# Altium integrated library Resistores.IntLib: 64 symbols (part 1 of 2)
Pins are listed as number, name and electrical type; pins without a type are passive.

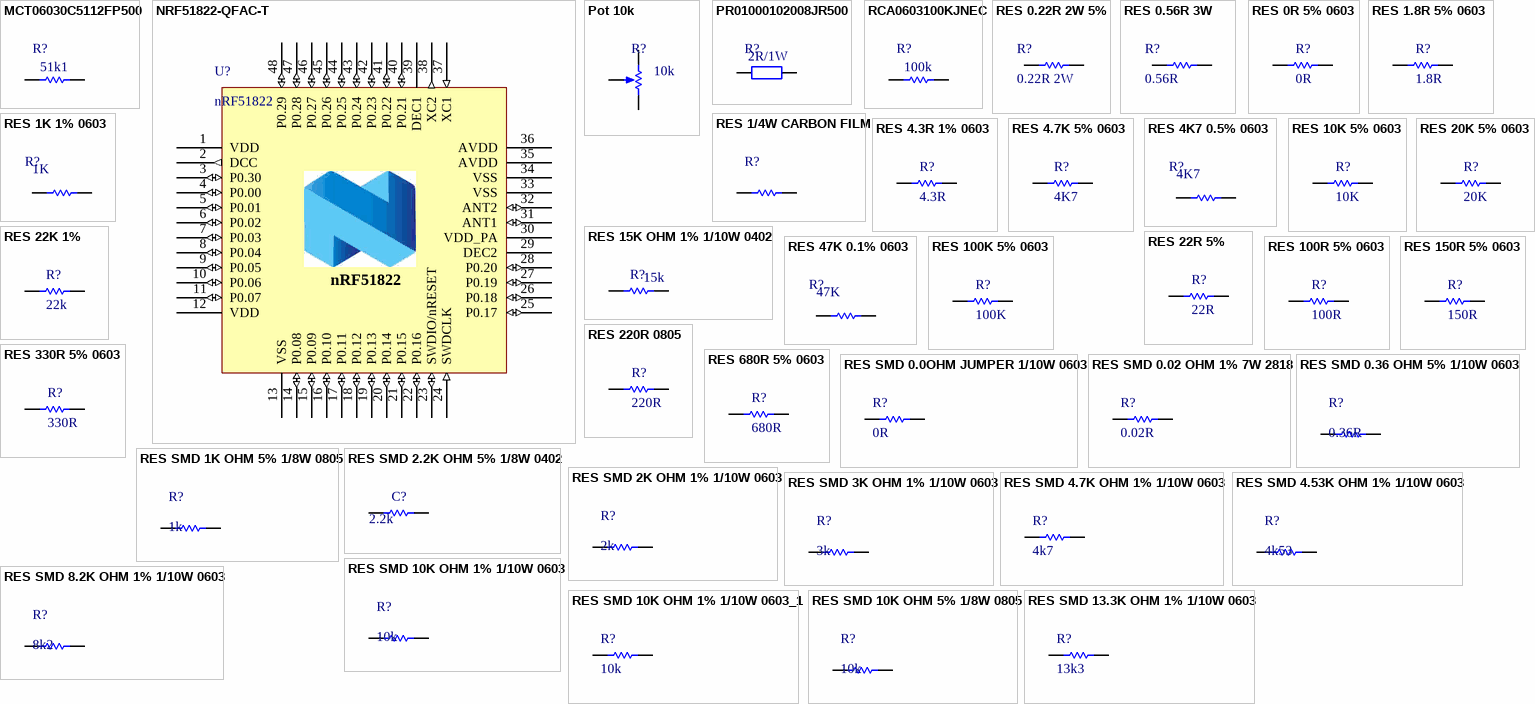
[diagram p0: symbols MCT06030C5112FP500 to RES SMD 13.3K OHM 1% 1/10W 0603]

## MCT06030C5112FP500
designator R?  value 51k1  (hidden comment: MCT06030C5112FP500)
Thin Film Resistors - SMD .1W 51.1Kohm 1% 0603 50ppm Auto; Manufacturer: Vishay / Beyschlag; Power Rating: 100 mW; Resistance: 51.1 kOhms; Temperature Coefficient: 50 PPM / K; Voltage Rating: 75 V; Case Height: 0.45 mm; Case Length: 1.6 mm; Case Width: 0.8 mm; Product Status: New at Mouser; Supplier 1: Mouser; Manufacturer Part Number: MCT06030C5112FP500; RoHS: RoHS Compliant; Category: Thin Film Resistors - SMD; Stock 1: 9178; Pricing 1: 1=0.149, 50=0.068, 100=0.052, 500=0.034, 5000=0.030 (AUD); Operating Temperature Range: - 55 C to + 125 C; Package / Case: 0603 (1608 metric); Packaging: Reel; Product: Professional Resistors Thin Film SMD; Series: MCT0603 Professional; Tolerance: 1 %; Type: Professional Thin Film Chip Resistors; Brand: Vishay / Beyschlag; Case Code - in: 0603; Case Code - mm: 1608; RoHS - Mouser: Y; Minimum Order Quantity: 1; Reeling: True; ComponentLink1URL: http://www.mouser.com/ds/2/427/mc_pro-223600.pdf; ComponentLink1Description: http://www.mouser.com/ds/2/427/mc_pro-223600.pdf; Supplier Part Number 1: 594-MCT06030C5112FP5
footprint RESISTOR-0603 (Chip Capacitor; Body 1.6 x 0.8 mm (LxW typ))
pins: 1, 2

## NRF51822-QFAC-T
designator U?, comment nRF51822
IC RF TXRX+MCU BLUETOOTH 48VFQFN; Manufacturer: Nordic Semiconductor ASA; Manufacturer Part Number: NRF51822-QFAC-T; RF Family/Standard: Bluetooth, General ISM > 1GHz; Protocol: Bluetooth v4.0; Modulation: GFSK; Frequency: 2.4GHz; Data Rate (Max): 2Mbps; Power - Output: 4dBm; Sensitivity: -96dBm; Memory Size: 256kB Flash, 32kB RAM; Serial Interfaces: I²C, SPI, UART; GPIO: 32; Voltage - Supply: 1.8 V ~ 3.6 V; Current - Receiving: 9.7mA ~ 13.4mA; Current - Transmitting: 4.7mA ~ 16mA; Supplier 1: Digi-Key; RoHS: RoHS Compliant; Category: RF/IF and RFID; Stock 1: 1067; Pricing 1: 1=4.96, 10=4.425, 25=3.9824, 100=3.6285, 250=3.27452, 500=2.9382, 1000=2.478, 5000=2.25675, 10000=2.1948 (USD); Packaging: Tray; Type: TxRx + MCU; Operating Temperature: -25°C ~ 75°C; Package / Case: 48-VFQFN Exposed Pad; ComponentLink1URL: http://www.nordicsemi.com/eng/nordic/download_resource/20351/11/97998644; ComponentLink1Description: http://www.nordicsemi.com/eng/nordic/download_resource/20351/11/97998644; Supplier Part Number 1: 1490-1050-ND
footprint QFN48_6X6 (QFN, 48-Leads, Body 6x6mm, Pitch 0.4mm, Thermal Pad 4.1x4.1mm, IPC Medium Density)
pins: 1 VDD (power) "Power supply", 2 DCC (out) "DC/DC output to LC filter", 3 P0.30 (io) "GPIO", 4 P0.00 (io) "GPIO/AREF0", 5 P0.01 (io) "GPIO/AIN2", 6 P0.02 (io) "GPIO/AIN3", 7 P0.03 (io) "GPIO/AIN4", 8 P0.04 (io) "GPIO/AIN5", 9 P0.05 (io) "GPIO/AIN6", 10 P0.06 (io) "GPIO/AIN7/AREF1", 11 P0.07 (io) "GPIO", 12 VDD (power) "Power supply", 13 VSS (power) "Ground (0V)", 14 P0.08 (io) "GPIO", 15 P0.09 (io) "GPIO", 16 P0.10 (io) "GPIO", 17 P0.11 (io) "GPIO", 18 P0.12 (io) "GPIO", 19 P0.13 (io) "GPIO", 20 P0.14 (io) "GPIO", 21 P0.15 (io) "GPIO", 22 P0.16 (io) "GPIO", 23 SWDIO/nRESET (io) "Active low RESET/Programming and debugging I/O", 24 SWDCLK (in) "Programming and debugging I/O", 25 P0.17 (io) "GPIO", 26 P0.18 (io) "GPIO", 27 P0.19 (io) "GPIO", 28 P0.20 (io) "GPIO", 29 DEC2 (power) "Power supply decoupling", 30 VDD_PA (power) "Power supply for RF amp.", 31 ANT1 (io) "Differential antenna connection", 32 ANT2 (io) "Differential antenna connection", 33 VSS (power) "Ground (0V)", 34 VSS (power) "Ground (0V)", 35 AVDD (power) "Analog power supply (radio)", 36 AVDD (power) "Analog power supply (radio)", 37 XC1 (in) "Connection for 16MHz reference", 38 XC2 (out) "Connection for 16MHz reference", 39 DEC1 (power) "Power supply decoupling", 40 P0.21 (io) "GPIO", 41 P0.22 (io) "GPIO", 42 P0.23 (io) "GPIO", 43 P0.24 (io) "GPIO", 44 P0.25 (io) "GPIO", 45 P0.26 (io) "GPIO/AIN0/XL2", 46 P0.27 (io) "GPIO/AIN1/XL1", 47 P0.28 (io) "GPIO", 48 P0.29 (io) "GPIO", 49 TPAD (power) hidden to GND "Power pad - connect to GND"

## Pot 10k
designator R?  Resistance (Ohms): 10k  (hidden comment: Pot 10k)
POT 10K OHM 1/20W PLASTIC LINEAR; Manufacturer: TT Electronics/BI; Manufacturer Part Number: P120PK-Y25BR10K; Tolerance: ±20%; Built in Switch: None; Power (Watts): 0.05W, 1/20W; Number of Turns: 1; Rotation: 300°; Adjustment Type: Top Adjustment; Resistive Material: Conductive Plastic; Actuator Type: Knurled; Actuator Length: 0.984" (25.00mm); Actuator Diameter: 0.236" (6.00mm); Supplier 1: Digi-Key; RoHS: RoHS Compliant; Category: Potentiometers, Variable Resistors; Stock 1: 1210; Pricing 1: 1=0.6, 10=0.553, 25=0.4932, 50=0.476, 100=0.442, 250=0.43352, 500=0.3995, 1000=0.34, 5000=0.2805 (USD); Packaging: Tray; Part Status: Active; Taper: Linear; Temperature Coefficient: -; Termination Style: PC Pins, Board Locks; Bushing Thread: -; Mounting Type: Through Hole, Snap In; ComponentLink1URL: http://www.ttelectronics.com/sites/default/files/download-files/Datasheet_RotaryPanelPot_P120series.pdf; ComponentLink1Description: http://www.ttelectronics.com/sites/default/files/download-files/Datasheet_RotaryPanelPot_P120series.pdf; Supplier Part Number 1: 987-1710-ND
footprint Pot 10k
pins: 1 TOP, 2 TAP, 3 BOT

## PR01000102008JR500
designator R?  value 2R/1W  (hidden comment: PR01000102008JR500)
Metal Film Resistors - Through Hole 1watt 2ohms 5%; Manufacturer: Vishay / BC Components; Power Rating: 1 W; Temperature Coefficient: 250 PPM / K; Voltage Rating: 350 V; Case Diameter: 2.5 mm; Case Length: 6.5 mm; Lead Diameter: 0.58 mm; Supplier 1: Mouser; Manufacturer Part Number: PR01000102008JR500; RoHS: RoHS Compliant; Category: Metal Film Resistors - Through Hole; Stock 1: 9820; Pricing 1: 1=0.208, 100=0.134, 500=0.094, 1000=0.061, 5000=0.039, 10000=0.036, 25000=0.034 (AUD); Operating Temperature Range: - 55 C to + 155 C; Packaging: Reel; Product: Metal Film Resistors - Through Hole; Resistance: 2 Ohms; Series: 5073; Termination Style: Axial; Tolerance: 5 %; Type: Power Metal Film Leaded Resistors; Brand: Vishay / BC Components; Case Height: -; Lead Spacing: -; Product Category: Metal Film Resistors; Standard Pack Qty: 5000; RoHS - Mouser: Y; Minimum Order Quantity: 1; Reeling: True; ComponentLink1URL: http://www.mouser.com/ds/2/427/pr010203-239785.pdf; ComponentLink1Description: http://www.mouser.com/ds/2/427/pr010203-239785.pdf; Supplier Part Number 1: 594-5073NW2R000J
footprint RES Pot Axial 20x5mm
pins: 1, 2

## RCA0603100KJNEC
designator R?  value 100k  (hidden comment: RCA0603100KJNEC)
Thick Film Resistors - SMD 100Kohms 5%; Manufacturer: Vishay; Power Rating: 100 mW; Temperature Coefficient: 200 PPM / K; Voltage Rating: 75 V; Case Height: 0.45 mm; Case Length: 1.55 mm; Case Width: 0.85 mm; Supplier 1: Mouser; Manufacturer Part Number: RCA0603100KJNEC; RoHS: RoHS Compliant By Exemption; Category: Thick Film Resistors - SMD; Stock 1: 0; Pricing 1: 1=0.134, 20000=0.077, 40000=0.019, 100000=0.016, 600000=0.009, 1000000=0.007 (AUD); Operating Temperature Range: - 55 C to + 125 C; Package / Case: 0603 (1608 metric); Packaging: Reel; Product: Thick Film Resistors SMD; Resistance: 100 kOhms; Series: RCA; Tolerance: 5 %; Type: Automotive Grade, Thick Film, Rectangular Chip Resistors; Brand: Vishay; Case Code - in: 0603; Case Code - mm: 1608; Product Category: 0603 Thick Film Chip Resistors; RoHS - Mouser: E; Minimum Order Quantity: 1; Reeling: True; ComponentLink1URL: http://www.mouser.com/ds/2/427/RCA-239686.pdf; ComponentLink1Description: http://www.mouser.com/ds/2/427/RCA-239686.pdf; Supplier Part Number 1: 71-RCA0603100KJNEC
footprint RESISTOR-0603 (Chip Capacitor; Body 1.6 x 0.8 mm (LxW typ))
pins: 1, 2

## RES 0.22R 2W 5%
designator R?, comment 0.22R 2W
WELWYN - WP2S-R22JA25 - RESISTOR, R22 2 WATT 5%; Resistance: 0.22; Voltage Rating: 50; Resistor Case Style: Axial Leaded; Power Rating: 2; Product Range: WP-S Series; Resistor Element Material: Wirewound; Temperature Coefficient: ± 350; SVHC: No SVHC (15-Jun-2015); Body Diameter: 3.6; Body Length: 9; Lead Diameter: 0.8; Lead Length: 19.8; Resistor Mounting: Through Hole; Temperature Coeff. +: 350; Tolerance -: 5%<!--FANDB--><div class="features-and-benefits-container"><div class="features-and-benefits-description"><span class="features-benefits-value">The WP2S-R22JA25 is a compact flameproof Power Wire Wound Resistor with hot tin dipped copper wire and enhanced pulse handling capability. Power rating of 2W and temperature coefficient of ±350; Supplier 1: Farnell; Manufacturer: WELWYN; Manufacturer Part Number: WP2S-R22JA25; RoHS: YES; Stock 1: 5570; Pricing 1: 5=0.289, 50=0.179, 250=0.163, 500=0.143, 1000=0.117, 2500=0.0994, 12500=0.0878, 25000=0.086 (GBP); Resistance Tolerance: ± 5%; Automotive Qualification Standard: -; Element Limiting Voltage: 50; No. of Pins: 2; Operating Temperature Max: 155; Operating Temperature Min: -55; Operating Temperature Range: -55°C to +155; Temperature Coeff. -: 350; Tolerance +: 5%; ComponentLink1URL: http://www.farnell.com/datasheets/2158887.pdf; ComponentLink1Description: http://www.farnell.com/datasheets/2158887.pdf; Supplier Part Number 1: 1219190
footprint RES 0R22 3W CARBON FILM
footprint RES 0R22 3W CARBON FILM_STAND
pins: 1, 2

## RES 0.56R 3W
designator R?, comment 0.56R
RES CER 0.56R 3W 5% PTH; Manufacturer: MULTICOMP; Manufacturer Part Number: MCKNP03SJ056KA19; Supplier 1: Farnell; RoHS: YES; Stock 1: 1412; Pricing 1: 1=0.298, 50=0.131, 100=0.109, 250=0.0821, 500=0.0656, 1000=0.0547, 5000=0.0345, 10000=0.029 (GBP); ComponentLink1URL: http://www.farnell.com/datasheets/1447692.pdf; ComponentLink1Description: http://www.farnell.com/datasheets/1447692.pdf; Supplier Part Number 1: 1903861
footprint RES 0R56 3W CARBON FILM
pins: 1, 2

## RES 0R 5% 0603
designator R?, comment 0R
Manufacturer: PANASONIC ELECTRONIC COMPONENTS; Manufacturer Part Number: ERJ-3GEY0R00V; Product Range: AEC-Q200 ERJ3; Resistance: 0; Power Rating: 100; Voltage Rating: 75; Resistor Case Style: 0603 [1608 Metric]; Resistance (Ohms): 0.0; Tolerance: Jumper; Power (Watts): 0.1W, 1/10W; Brand: Panasonic; Qualification: AEC-Q200; RoHS: YES; Resistance Tolerance: -; Packaging: Cut Tape; MSL: -; ComponentLink1URL: http://www.farnell.com/cad/1697908.zip; ComponentLink1Description: http://www.farnell.com/cad/1697908.zip; ComponentLink2URL: http://www.farnell.com/datasheets/1678796.pdf; ComponentLink2Description: http://www.farnell.com/datasheets/1678796.pdf; Category: Resistors; Composition: Thick Film; Features: Automotive AEC-Q200; Temperature Coefficient: -; Operating Temperature: -55°C ~ 155°C; Package / Case: 0603 (1608 Metric); Supplier Device Package: 0603; Size / Dimension: 0.063" L x 0.031" W (1.60mm x 0.80mm); Height: 0.022" (0.55mm); Number of Terminations: 2; ComponentLink3URL: http://industrial.panasonic.com/www-cgi/jvcr13pz.cgi?E+PZ+3+AOA0001+ERJ3GEY0R00V+7+WW; ComponentLink3Description: http://industrial.panasonic.com/www-cgi/jvcr13pz.cgi?E+PZ+3+AOA0001+ERJ3GEY0R00V+7+WW; Supplier 1: Mouser; Stock 1: 1987085; Pricing 1: 1=0.160, 10=0.019, 100=0.013, 500=0.010, 1000=0.005, 5000=0.003 (AUD); Length: 1.6 mm; Operating Temperature Range: - 55 C to + 155 C; Product: Thick Film Resistors Zero-Ohm; Series: ERJ; Termination Style: SMD/SMT; Type: Thick Film Resistors SMD; Width: 0.8 mm; Case Code - in: 0603; Case Code - mm: 1608; RoHS - Mouser: E; Minimum Order Quantity: 1; Reeling: True; ComponentLink4URL: http://www.mouser.com/ds/2/315/AOA0000C84-947596.pdf; ComponentLink4Description: http://www.mouser.com/ds/2/315/AOA0000C84-947596.pdf; Supplier Part Number 1: 667-ERJ-3GEY0R00V
footprint RESISTOR 0603 (RES 5% 0603)
pins: 1, 2

## RES 1.8R 5% 0603
designator R?, comment 1.8R
Thick Film Resistors - SMD 1.8 OHM 5%; Manufacturer: Yageo; Manufacturer Part Number: RC0603JR-071R8L; Power Rating: 100 mW; Resistance: 1.8 Ohms; Temperature Coefficient: 200 PPM / C; Voltage Rating: 75 V; Supplier 1: Mouser; RoHS: RoHS Compliant; Category: Thick Film Resistors - SMD; Stock 1: 37637; Pricing 1: 1=0.100, 10=0.008, 100=0.003, 1000=0.002, 5000=0.002, 50000=0.001 (USD); Height: 0.45 mm; Length: 1.6 mm; Operating Temperature Range: - 55 C to + 155 C; Package / Case: 0603 (1608 metric); Packaging: Reel; Product: Thick Film Resistors General Purpose; Series: RC; Termination Style: SMD/SMT; Tolerance: 5 %; Type: General Purpose Chip Resistor Surface Mount; Width: 0.8 mm; Brand: Yageo; Case Code - in: 0603; Case Code - mm: 1608; Standard Pack Qty: 5000; RoHS - Mouser: Y; Minimum Order Quantity: 1; Reeling: True; ComponentLink1URL: http://www.mouser.com/ds/2/447/RC0603-272842.pdf; ComponentLink1Description: http://www.mouser.com/ds/2/447/RC0603-272842.pdf; Supplier Part Number 1: 603-RC0603JR-071R8L
footprint RESISTOR 0603 (RES 5% 0603)
pins: 1, 2

## RES 1/4W CARBON FILM
designator R?  (value not drawn)
RES ? OHM 1/4W 5% CARBON FILM; Manufacturer: Ty-Ohm; Manufacturer Part Number: CR25; Power (Watts): 0.25W, 1/4W; Temperature Coefficient: 0/ -500ppm/°C; Supplier 1: Mult Comercial; RoHS: RoHS Compliant; Category: Resistors; Stock 1: 617543; Pricing 1: 1=0.20 (BRL); Packaging: Cut Tape (CT); Tolerance: ±5%; Composition: Carbon Film; Features: Flame Retardant Coating, Safety; Operating Temperature: -55°C ~ 155°C; Package / Case: Axial; Supplier Device Package: Axial; Size / Dimension: 0.091" Dia x 0.256" L (2.30mm x 6.50mm); Height: -; Number of Terminations: 2; ComponentLink1URL: http://loja.multcomercial.com.br/resistor-de-1-4-de-watt-cr25-5-de-tolerancia.html; ComponentLink1Description: http://loja.multcomercial.com.br/resistor-de-1-4-de-watt-cr25-5-de-tolerancia.html; Supplier Part Number 1: Resistor de Filme de Carbono 1/4 de Watt CR25 5% de tolerância - 0.22R Ω à 10M Ω; Resistance (Ohms): ?
footprint RES 10K 1/4W CARBON FILM
footprint RES 470R 1/4W CARBON FILM
footprint RES 470R 1/4W CARBON FILM_STAND
footprint RES 10K 1/4W CARBON FILM_STAND
footprint RES 1K 1/4W CARBON FILM
footprint RES 1K 1/4W CARBON FILM_STAND
footprint RES 2K2 1/4W CARBON FILM
footprint RES 2K2 1/4W CARBON FILM_STAND
footprint RES 3K9 1/4W CARBON FILM
footprint RES 3K9 1/4W CARBON FILM_STAND
footprint RES 5K6 1/4W CARBON FILM
footprint RES 5K6 1/4W CARBON FILM_STAND
footprint RES 8K2 1/4W CARBON FILM
footprint RES 8K2 1/4W CARBON FILM_STAND
footprint RES 100R 1/4W CARBON FILM
pins: 1, 2

## RES 1K 1% 0603
designator R?  Supplier Part Number 1: 1K  (hidden comment: *)
Thin Film Resistors - SMD 1Kohms 1% 50ppm; Manufacturer: Vishay; Manufacturer Part Number: TNPW06031K00FHEA; Power Rating: 100 mW; Temperature Coefficient: 50 PPM / C; Voltage Rating: 75 V; Supplier 1: Mouser; RoHS: RoHS Compliant; Category: Thin Film Resistors - SMD; Stock 1: 2821; Pricing 1: 1=0.160, 25=0.140, 100=0.130, 500=0.125, 1000=0.120, 2000=0.090, 5000=0.080, 10000=0.075, 25000=0.070 (USD); Diameter: -; Height: 0.45 mm; Length: 1.6 mm; Operating Temperature Range: - 55 C to + 125 C; Package / Case: 0603 (1608 metric); Packaging: Reel; Product: Precision Resistors Thin Film SMD; Resistance: 1 kOhms; Series: TNPW e3; Termination Style: SMD/SMT; Tolerance: 1 %; Type: High Stability Thin Film Flat Chip Resistor; Width: 0.8 mm; Brand: Vishay; Case Code - in: 0603; Case Code - mm: 1608; Standard Pack Qty: 5000; RoHS - Mouser: Y; Minimum Order Quantity: 1; Reeling: True; ComponentLink1URL: http://www.mouser.com/ds/2/427/tnpw_e3-64594.pdf; ComponentLink1Description: http://www.mouser.com/ds/2/427/tnpw_e3-64594.pdf
footprint RESISTOR 0603 (RES 5% 0603)
footprint SMD-0402-RES
pins: 1, 2

## RES 4.3R 1% 0603
designator R?, comment 4.3R
Current Sense Resistors - SMD Thick Film Chip Res, 0603, Low ohmic,1%; Manufacturer: Panasonic; Manufacturer Part Number: ERJ-3BQF4R3V; Resistance: 4.3 Ohms; Qualification: AEC-Q200; Supplier 1: Mouser; Category: Current Sense Resistors - SMD; Stock 1: 10000; Pricing 1: 1=0.590, 10=0.229, 100=0.143, 500=0.108, 1000=0.083, 5000=0.062, 10000=0.044, 25000=0.043, 50000=0.041 (USD); Height: 0.45 mm; Length: 1.6 mm; Package / Case: 0603 (1608 metric); Packaging: Reel; Series: ERJ; Technology: Thick Film; Termination Style: SMD/SMT; Width: 0.8 mm; Brand: Panasonic; Standard Pack Qty: 5000; Termination: -; Minimum Order Quantity: 1; Reeling: True; ComponentLink1URL: http://www.mouser.com/ds/2/315/AOA0000C239-947529.pdf; ComponentLink1Description: http://www.mouser.com/ds/2/315/AOA0000C239-947529.pdf
footprint RESISTOR 0603 (RES 5% 0603)
pins: 1, 2

## RES 4.7K 5% 0603
designator R?, comment 4K7
RES SMD 4.7K OHM 5% 1/10W 0603; Manufacturer: Panasonic Electronic Components; Manufacturer Part Number: ERJ-3GEYJ472V; Power (Watts): 0.1W, 1/10W; Temperature Coefficient: ±200ppm/°C; Supplier 1: Digi-Key; RoHS: RoHS Compliant; Category: Resistors; Stock 1: 1290000; Pricing 1: 5000=0.00209, 10000=0.00182, 25000=0.0016, 50000=0.0015 (USD); Packaging: Tape & Reel (TR); Part Status: Active; Resistance (Ohms): 4.7k; Tolerance: ±5%; Composition: Thick Film; Features: Automotive AEC-Q200; Operating Temperature: -55°C ~ 155°C; Package / Case: 0603 (1608 Metric); Supplier Device Package: 0603; Size / Dimension: 0.063" L x 0.031" W (1.60mm x 0.80mm); Height - Seated (Max): 0.022" (0.55mm); Number of Terminations: 2; Failure Rate: -; ComponentLink1URL: http://industrial.panasonic.com/www-cgi/jvcr13pz.cgi?E+PZ+3+AOA0001+ERJ3GEYJ472V+7+WW; ComponentLink1Description: http://industrial.panasonic.com/www-cgi/jvcr13pz.cgi?E+PZ+3+AOA0001+ERJ3GEYJ472V+7+WW
footprint RESISTOR 0603 (RES 5% 0603)
footprint SMD-0402-RES
pins: 1, 2

## RES 4K7 0.5% 0603
designator R?  Supplier Part Number 1: 4K7  (hidden comment: *)
Thin Film Resistors - SMD .15W 4.7Kohms .5% 0603 SMD 25ppm; Manufacturer: Vishay / Beyschlag; Manufacturer Part Number: MCT0603MD4701DP500; Power Rating: 125 mW (1/8 W); Temperature Coefficient: 25 PPM / K; Tolerance: 0.5 %; Voltage Rating: 75 V; Supplier 1: Mouser; RoHS: RoHS Compliant; Category: Thin Film Resistors - SMD; Stock 1: 8588; Pricing 1: 1=0.170, 50=0.134, 100=0.106, 500=0.086, 1000=0.062, 5000=0.052, 10000=0.047, 15000=0.044 (USD); Height: 0.45 mm; Length: 1.6 mm; Operating Temperature Range: - 55 C to + 155 C; Package / Case: 0603 (1608 metric); Packaging: Reel; Product: Precision Automotive Thin Film SMD; Resistance: 4.7 kOhms; Series: MCT0603 AT; Termination Style: SMD/SMT; Type: Professional Thin Film Chip Resistors; Width: 0.8 mm; Brand: Vishay / Beyschlag; Case Code - in: 0603; Case Code - mm: 1608; Standard Pack Qty: 5000; RoHS - Mouser: Y; Minimum Order Quantity: 1; Reeling: True; ComponentLink1URL: http://www.mouser.com/ds/2/427/mcat_pro-223602.pdf; ComponentLink1Description: http://www.mouser.com/ds/2/427/mcat_pro-223602.pdf
footprint RESISTOR 0603 (RES 5% 0603)
pins: 1, 2

## RES 10K 5% 0603
designator R?, comment 10K
Manufacturer: PANASONIC ELECTRONIC COMPONENTS; Manufacturer Part Number: ERJ-3GEYJ103V; Tolerance: ±5%; Power (Watts): 0.1W, 1/10W; Temperature Coefficient: ±200ppm/°C; RoHS: YES; ComponentLink1URL: http://www.farnell.com/datasheets/1678796.pdf; ComponentLink1Description: http://www.farnell.com/datasheets/1678796.pdf; Category: Resistors; Packaging: Tape & Reel (TR); Resistance (Ohms): 10k; Composition: Thick Film; Features: Automotive AEC-Q200; Operating Temperature: -55°C ~ 155°C; Package / Case: 0603 (1608 Metric); Supplier Device Package: 0603; Size / Dimension: 0.063" L x 0.031" W (1.60mm x 0.80mm); Height: 0.022" (0.55mm); Number of Terminations: 2; ComponentLink2URL: http://industrial.panasonic.com/www-cgi/jvcr13pz.cgi?E+PZ+3+AOA0001+ERJ3GEYJ103V+7+WW; ComponentLink2Description: http://industrial.panasonic.com/www-cgi/jvcr13pz.cgi?E+PZ+3+AOA0001+ERJ3GEYJ103V+7+WW; Supplier 1: Mouser; Supplier Part Number 1: 667-ERJ-3GEYJ103V
footprint RESISTOR 0603 (RES 5% 0603)
footprint SMD-0402-RES
pins: 1, 2

## RES 15K OHM 1% 1/10W 0402
designator R?, comment 15k
RES SMD 15K OHM 1% 1/10W 0402; Manufacturer: Panasonic Electronic Components; Manufacturer Part Number: ERJ-2RKF1502X; Power (Watts): 0.1W, 1/10W; Temperature Coefficient: ±100ppm/°C; Supplier 1: Digi-Key; RoHS: RoHS Compliant; Category: Resistors; Stock 1: 278582; Pricing 1: 1=0.1, 10=0.026, 100=0.0105, 1000=0.00473, 2500=0.0041, 5000=0.00339 (USD); Packaging: Digi-Reel®; Part Status: Active; Tolerance: ±1%; Composition: Thick Film; Features: Automotive AEC-Q200; Operating Temperature: -55°C ~ 155°C; Package / Case: 0402 (1005 Metric); Supplier Device Package: 0402; Size / Dimension: 0.039" L x 0.020" W (1.00mm x 0.50mm); Height - Seated (Max): 0.016" (0.40mm); Failure Rate: -; ComponentLink1URL: https://industrial.panasonic.com/cdbs/www-data/pdf/RDA0000/AOA0000C283.pdf; ComponentLink1Description: https://industrial.panasonic.com/cdbs/www-data/pdf/RDA0000/AOA0000C283.pdf; Supplier Part Number 1: P15.0KLDKR-ND; Resistance (Ohms): 15k
footprint RESISTOR 0603 (RES 5% 0603)
pins: 1, 2

## RES 20K 5% 0603
designator R?, comment 20K
Manufacturer: Susumu; Manufacturer Part Number: RR0816P-203-D; Tolerance: ±0.5%; Power (Watts): 0.063W, 1/16W; Temperature Coefficient: ±25ppm/°C; Supplier 1: Digi-Key; RoHS: RoHS Compliant; Category: Resistors; Stock 1: 197464; Pricing 1: 1=0.1, 10=0.093, 25=0.0644, 50=0.0502, 100=0.0358, 250=0.02792, 500=0.0222, 1000=0.01575 (USD); Packaging: Cut Tape (CT); Part Status: Active; Resistance (Ohms): 20k; Composition: Thin Film; Features: -; Operating Temperature: -55°C ~ 125°C; Package / Case: 0603 (1608 Metric); Supplier Device Package: -; Size / Dimension: 0.063" L x 0.031" W (1.60mm x 0.80mm); Height: 0.020" (0.50mm); Number of Terminations: 2; Failure Rate: -; ComponentLink1URL: http://www.susumu-usa.com/pdf/RR_Data_Sheet.pdf; ComponentLink1Description: http://www.susumu-usa.com/pdf/RR_Data_Sheet.pdf; Supplier Part Number 1: RES 20K 5% 0603
footprint RESISTOR 0603 (RES 5% 0603)
pins: 1, 2

## RES 22K 1%
designator R?, comment 22k
RES SMD 22K OHM 1% 1/20W 0201; Manufacturer: Yageo; Manufacturer Part Number: RC0201FR-0722KL; Power (Watts): 0.05W, 1/20W; Temperature Coefficient: ±200ppm/°C; Supplier 1: Digi-Key; RoHS: RoHS Compliant; Category: Resistors; Stock 1: 36515; Pricing 1: 1=0.1, 10=0.041, 25=0.0296, 50=0.0224, 100=0.0166, 250=0.01264, 500=0.01012, 1000=0.00745, 5000=0.00534 (USD); Packaging: Cut Tape (CT); Part Status: Active; Resistance (Ohms): 22k; Tolerance: ±1%; Composition: Thick Film; Features: Moisture Resistant; Operating Temperature: -55°C ~ 125°C; Package / Case: 0201 (0603 Metric); Supplier Device Package: 0201; Size / Dimension: 0.024" L x 0.012" W (0.60mm x 0.30mm); Height - Seated (Max): 0.010" (0.26mm); Number of Terminations: 2; Failure Rate: -; ComponentLink1URL: http://www.yageo.com/NewPortal/yageodocoutput?fileName=/pdf/R-Chip/PYu-RC_Group_51_RoHS_L_4.pdf; ComponentLink1Description: http://www.yageo.com/NewPortal/yageodocoutput?fileName=/pdf/R-Chip/PYu-RC_Group_51_RoHS_L_4.pdf; Supplier Part Number 1: YAG2278CT-ND
footprint RESISTOR 0603 (RES 5% 0603)
pins: 1, 2

## RES 22R 5%
designator R?, comment 22R
RES SMD 22 OHM 5% 1/20W 0201; Manufacturer: Panasonic Electronic Components; Manufacturer Part Number: ERJ-1GEJ220C; Resistance (Ohms): 22; Power (Watts): 0.05W, 1/20W; Temperature Coefficient: ±200ppm/°C; Supplier 1: Digi-Key; RoHS: RoHS Compliant; Category: Resistors; Stock 1: 409383; Pricing 1: 1=0.1, 10=0.039, 25=0.0284, 50=0.0216, 100=0.0159, 250=0.01216, 500=0.00972, 1000=0.00716, 5000=0.00513 (USD); Packaging: Cut Tape (CT); Part Status: Active; Tolerance: ±5%; Composition: Thick Film; Features: -; Operating Temperature: -55°C ~ 125°C; Package / Case: 0201 (0603 Metric); Supplier Device Package: 0201; Size / Dimension: 0.024" L x 0.012" W (0.60mm x 0.30mm); Height - Seated (Max): 0.010" (0.26mm); Number of Terminations: 2; Failure Rate: -; ComponentLink1URL: http://media.digikey.com/pdf/Data%20Sheets/Panasonic%20Resistors%20Thermistors%20PDFs/ERJ%205%25.pdf; ComponentLink1Description: http://media.digikey.com/pdf/Data%20Sheets/Panasonic%20Resistors%20Thermistors%20PDFs/ERJ%205%25.pdf; Supplier Part Number 1: P22AGCT-ND
footprint RESISTOR 0603 (RES 5% 0603)
pins: 1, 2

## RES 47K 0.1% 0603
designator R?  Supplier Part Number 1: 47K  (hidden comment: *)
Thin Film Resistors - SMD 0603 1/10W 47Kohms; Manufacturer: Panasonic; Manufacturer Part Number: ERA-3AEB473V; Power Rating: 100 mW; Temperature Coefficient: 25 PPM / C; Tolerance: 0.1 %; Supplier 1: Mouser; RoHS: RoHS Compliant By Exemption; Category: Thin Film Resistors - SMD; Stock 1: 28007; Pricing 1: 1=0.630, 10=0.249, 100=0.149, 500=0.105, 1000=0.076, 5000=0.042, 10000=0.039, 25000=0.037 (USD); Height: 0.45 mm; Length: 1.6 mm; Operating Temperature Range: - 55 C to + 155 C; Package / Case: 0603 (1608 metric); Packaging: Reel; Product: Thin Film Resistors SMD; Resistance: 47 kOhms; Series: ERA-3A; Termination Style: SMD/SMT; Type: Metal Film Chip Resistors; Width: 0.8 mm; Brand: Panasonic; Case Code - in: 0603; Case Code - mm: 1608; Standard Pack Qty: 5000; RoHS - Mouser: E; Minimum Order Quantity: 1; Reeling: True; ComponentLink1URL: http://www.mouser.com/ds/2/315/AOA0000C237-944224.pdf; ComponentLink1Description: http://www.mouser.com/ds/2/315/AOA0000C237-944224.pdf
footprint RESISTOR 0603 (RES 5% 0603)
footprint SMD-0402-RES
pins: 1, 2

## RES 100K 5% 0603
designator R?, comment 100K
Manufacturer: PANASONIC ELECTRONIC COMPONENTS; Manufacturer Part Number: ERJ3GEYJ104V; Product Range: AEC-Q200 ERJ3; Resistance: 100; Resistance Tolerance: ± 5%; Voltage Rating: 75; Resistor Case Style: 0603 [1608 Metric]; Resistor Element Material: Thick Film; Temperature Coefficient: ± 200; SVHC: No SVHC (15-Jun-2015); Resistor Mounting: Surface Mount Device<!--FANDB--><div class="features-and-benefits-container"><div class="features-and-benefits-description"><span class="features-benefits-value">The Panasonic ERJ 3G series resistors are automotive grade thick film chip resistors. The resistance range includes E24 decade values from 1ohm to 10Mohm. ERJ series resistors have metal glaze thick film resistive element and three layers of electrodes that make them highly reliable.</span></div><div class="features-and-benefits-list"><ul class="features-and-benefits-list-list"><li class="features-and-benefits-list-item">EIA 01005, 0201, 0402, 0603, 0805, 1206, 1210, 1812, 2010, 2512 case sizes available</li><li class="features-and-benefits-list-item">Small size, low weight resistors</li><li class="features-and-benefits-list-item">Automotive grade AEC-Q200 compliant</li><li class="features-and-benefits-list-item">Maximum power rating of 1W</li><li class="features-and-benefits-list-item">Tolerance of ±5%</li><li class="features-and-benefits-list-item">Temperature coefficient (TCR) of -100 to +600, -400 to +150, ±300 and ±200ppm/°C</li><li class="features-and-benefits-list-item">Available in -55°C to 125°C and -55°C to 155°C operating temperature ranges</li><li class="features-and-benefits-list-item">Meets IEC 60115-8, JIS C 5201-8, EIAJ RC-2134; Tolerance: 5 %; Brand: Panasonic; Qualification: AEC-Q200; RoHS: YES; Power Rating: 100; Packaging: Cut Tape; MSL: -; ComponentLink1URL: http://www.farnell.com/datasheets/1678796.pdf; ComponentLink1Description: http://www.farnell.com/datasheets/1678796.pdf; ComponentLink2URL: http://www.farnell.com/datasheets/1718548.pdf; ComponentLink2Description: http://www.farnell.com/datasheets/1718548.pdf; Supplier 1: Mouser; Category: Thick Film Resistors - SMD; Stock 1: 312094; Pricing 1: 1=0.160, 10=0.019, 100=0.013, 500=0.010, 1000=0.005, 5000=0.003 (AUD); Height: 0.45 mm; Length: 1.6 mm; Operating Temperature Range: - 55 C to + 155 C; Package / Case: 0603 (1608 metric); Product: Thick Film Resistors SMD; Series: ERJ; Termination Style: SMD/SMT; Type: Thick Film Resistors SMD; Width: 0.8 mm; Case Code - in: 0603; Case Code - mm: 1608; RoHS - Mouser: E; Minimum Order Quantity: 1; Reeling: True; ComponentLink3URL: http://www.mouser.com/ds/2/315/AOA0000C84-947596.pdf; ComponentLink3Description: http://www.mouser.com/ds/2/315/AOA0000C84-947596.pdf; Supplier Part Number 1: 667-ERJ-3GEYJ104V
footprint RESISTOR 0603 (RES 5% 0603)
pins: 1, 2

## RES 100R 5% 0603
designator R?, comment 100R
Manufacturer: PANASONIC ELECTRONIC COMPONENTS; Manufacturer Part Number: ERJ-3EKF1000V; Product Range: AEC-Q200 ERJ3; Resistance: 100; Resistance Tolerance: 1%; Voltage Rating: 75; Resistor Case Style: 0603 [1608 Metric]; Tolerance: ±1%; Power (Watts): 0.1W, 1/10W; Temperature Coefficient: ±100ppm/°C; Brand: Panasonic; Qualification: AEC-Q200; RoHS: YES; Power Rating: 100; Packaging: Cut Tape; MSL: -; ComponentLink1URL: http://www.farnell.com/cad/1560092.zip; ComponentLink1Description: http://www.farnell.com/cad/1560092.zip; ComponentLink2URL: http://www.farnell.com/datasheets/1678782.pdf; ComponentLink2Description: http://www.farnell.com/datasheets/1678782.pdf; Category: Resistors; Resistance (Ohms): 100; Composition: Thick Film; Features: Automotive AEC-Q200; Operating Temperature: -55°C ~ 155°C; Package / Case: 0603 (1608 Metric); Supplier Device Package: 0603; Size / Dimension: 0.063" L x 0.031" W (1.60mm x 0.80mm); Height: 0.022" (0.55mm); Number of Terminations: 2; ComponentLink3URL: http://industrial.panasonic.com/www-cgi/jvcr13pz.cgi?E+PZ+3+AOA0002+ERJ3EKF1000V+7+WW; ComponentLink3Description: http://industrial.panasonic.com/www-cgi/jvcr13pz.cgi?E+PZ+3+AOA0002+ERJ3EKF1000V+7+WW; Length: 1.6 mm; Operating Temperature Range: - 55 C to + 155 C; Product: Thick Film Resistors SMD; Series: ERJ; Termination Style: SMD/SMT; Type: Precision Thick Film Resistors SMD; Width: 0.8 mm; Case Code - in: 0603; Case Code - mm: 1608; RoHS - Mouser: E; Minimum Order Quantity: 1; Reeling: True; ComponentLink4URL: http://www.mouser.com/ds/2/315/AOA0000C86-911473.pdf; ComponentLink4Description: http://www.mouser.com/ds/2/315/AOA0000C86-911473.pdf; Supplier 1: Mouser; Stock 1: 6963; Pricing 1: 1=0.288, 10=0.174, 100=0.101, 1000=0.069, 5000=0.053, 10000=0.046, 25000=0.042, 50000=0.035, 100000=0.029 (AUD); Diameter: -; Product Category: 0603 Thick Film Chip Resistors; ComponentLink6URL: http://www.mouser.com/ds/2/427/crcwhpe3-46056.pdf; ComponentLink6Description: http://www.mouser.com/ds/2/427/crcwhpe3-46056.pdf; Supplier Part Number 1: 71-CRCW0603100RJNEAH
footprint RESISTOR 0603 (RES 5% 0603)
pins: 1, 2

## RES 150R 5% 0603
designator R?, comment 150R
Manufacturer: Vishay Beyschlag; Manufacturer Part Number: MCT0603MD1500DP500; Resistance (Ohms): 150; Tolerance: ±0.5%; Power (Watts): 0.15W; Temperature Coefficient: ±25ppm/°C; Supplier 1: Digi-Key; RoHS: RoHS Compliant; Category: Resistors; Stock 1: 6800; Pricing 1: 1=0.41, 10=0.294, 25=0.2172, 50=0.1602, 100=0.1176, 250=0.0972, 500=0.08014, 1000=0.05797 (USD); Packaging: Cut Tape (CT); Part Status: Active; Composition: Thin Film; Features: Anti-Sulfur, Automotive AEC-Q200; Operating Temperature: -55°C ~ 175°C; Package / Case: 0603 (1608 Metric); Supplier Device Package: 0603; Size / Dimension: 0.061" L x 0.033" W (1.55mm x 0.85mm); Height: 0.022" (0.55mm); Number of Terminations: 2; Failure Rate: -; ComponentLink1URL: http://www.vishay.com/docs/28760/mcat_pro.pdf; ComponentLink1Description: http://www.vishay.com/docs/28760/mcat_pro.pdf; Supplier Part Number 1: RES 150R 5% 0603
footprint RESISTOR 0603 (RES 5% 0603)
pins: 1, 2

## RES 220R 0805
designator R?, comment 220R
Manufacturer: Panasonic; Manufacturer Part Number: ERJP06F2200V; Supplier 1: Allied; RoHS: No; Stock 1: 0; Pricing 1: 50=0.0376, 125=0.0339, 250=0.0308, 500=0.0282 (USD); ComponentLink1URL: http://www.alliedelec.com/m/d/0ad461061842af8edcaf7ac114212a8c.pdf; ComponentLink1Description: http://www.alliedelec.com/m/d/0ad461061842af8edcaf7ac114212a8c.pdf; ComponentLink2URL: http://www.alliedelec.com/panasonic-erjp06f2200v/70348978/; ComponentLink2Description: http://www.alliedelec.com/panasonic-erjp06f2200v/70348978/
footprint RESISTOR 0805 (Chip Resistor, 2-Leads, Body 2,00x1,25mm, IPC Low Density)
pins: 1, 2

## RES 330R 5% 0603
designator R?, comment 330R
RES SMD 330 OHM 5% 1/10W 0603; Manufacturer: Panasonic Electronic Components; Manufacturer Part Number: ERJ-3GEYJ331V; Resistance (Ohms): 330; Power (Watts): 0.1W, 1/10W; Temperature Coefficient: ±200ppm/°C; Supplier 1: Digi-Key; RoHS: RoHS Compliant; Category: Resistors; Stock 1: 401985; Pricing 1: 1=0.1, 10=0.016, 25=0.0116, 50=0.0088, 100=0.0065, 250=0.00496, 500=0.00396, 1000=0.00292 (USD); Packaging: Cut Tape (CT); Part Status: Active; Tolerance: ±5%; Composition: Thick Film; Features: Automotive AEC-Q200; Operating Temperature: -55°C ~ 155°C; Package / Case: 0603 (1608 Metric); Supplier Device Package: 0603; Size / Dimension: 0.063" L x 0.031" W (1.60mm x 0.80mm); Height - Seated (Max): 0.022" (0.55mm); Number of Terminations: 2; Failure Rate: -; ComponentLink1URL: http://industrial.panasonic.com/www-cgi/jvcr13pz.cgi?E+PZ+3+AOA0001+ERJ3GEYJ331V+7+WW; ComponentLink1Description: http://industrial.panasonic.com/www-cgi/jvcr13pz.cgi?E+PZ+3+AOA0001+ERJ3GEYJ331V+7+WW
footprint RES 0603 N (Chip Resistor, 2-Leads, Body 1,60x0,80mm, IPC Medium Density)
pins: 1, 2

## RES 680R 5% 0603
designator R?, comment 680R
Manufacturer: PANASONIC ELECTRONIC COMPONENTS; Manufacturer Part Number: ERJ-3GEYJ681V; Product Range: AEC-Q200 ERJ3; Resistance: 680; Power Rating: 100; Resistance Tolerance: 5%; Voltage Rating: 75; Resistor Case Style: 0603 [1608 Metric]; Tolerance: ±5%; Power (Watts): 0.1W, 1/10W; Temperature Coefficient: ±200ppm/°C; Brand: Panasonic; Qualification: AEC-Q200; RoHS: YES; Packaging: Cut Tape; MSL: -; ComponentLink1URL: http://www.farnell.com/cad/1697908.zip; ComponentLink1Description: http://www.farnell.com/cad/1697908.zip; ComponentLink2URL: http://www.farnell.com/datasheets/1678796.pdf; ComponentLink2Description: http://www.farnell.com/datasheets/1678796.pdf; Category: Resistors; Composition: Thick Film; Features: Automotive AEC-Q200; Operating Temperature: -55°C ~ 155°C; Package / Case: 0603 (1608 Metric); Supplier Device Package: 0603; Size / Dimension: 0.063" L x 0.031" W (1.60mm x 0.80mm); Height: 0.022" (0.55mm); Number of Terminations: 2; ComponentLink3URL: http://industrial.panasonic.com/www-cgi/jvcr13pz.cgi?E+PZ+3+AOA0001+ERJ3GEYJ681V+7+WW; ComponentLink3Description: http://industrial.panasonic.com/www-cgi/jvcr13pz.cgi?E+PZ+3+AOA0001+ERJ3GEYJ681V+7+WW; Supplier 1: Mouser; Stock 1: 128818; Pricing 1: 1=0.144, 10=0.032, 100=0.016, 500=0.010, 1000=0.005, 5000=0.005, 10000=0.003 (AUD); Length: 1.6 mm; Operating Temperature Range: - 55 C to + 155 C; Product: Thick Film Resistors SMD; Series: ERJ; Termination Style: SMD/SMT; Type: Thick Film Resistors SMD; Width: 0.8 mm; Case Code - in: 0603; Case Code - mm: 1608; RoHS - Mouser: E; Minimum Order Quantity: 1; Reeling: True; ComponentLink4URL: http://www.mouser.com/ds/2/315/AOA0000C84-947596.pdf; ComponentLink4Description: http://www.mouser.com/ds/2/315/AOA0000C84-947596.pdf; Supplier Part Number 1: 667-ERJ-3GEYJ681V; Resistance (Ohms): 680
footprint RESISTOR 0603 (RES 5% 0603)
pins: 1, 2

## RES SMD 0.0OHM JUMPER 1/10W 0603
designator R?, comment 0R
RES SMD 0.0OHM JUMPER 1/10W 0603; Manufacturer: Panasonic Electronic Components; Manufacturer Part Number: ERJ-3GEY0R00V; Resistance (Ohms): 0.0; Power (Watts): 0.1W, 1/10W; Supplier 1: Digi-Key; RoHS: RoHS Compliant; Category: Resistors; Stock 1: 5501111; Pricing 1: 1=0.1, 50=0.0126, 100=0.0096, 250=0.00716, 500=0.00528, 1000=0.00352, 2500=0.00297 (USD); Packaging: Cut Tape (CT); Part Status: Active; Tolerance: Jumper; Composition: Thick Film; Features: Automotive AEC-Q200; Temperature Coefficient: -; Operating Temperature: -55°C ~ 155°C; Package / Case: 0603 (1608 Metric); Supplier Device Package: 0603; Size / Dimension: 0.063" L x 0.031" W (1.60mm x 0.80mm); Height: 0.022" (0.55mm); Number of Terminations: 2; Failure Rate: -; ComponentLink1URL: http://industrial.panasonic.com/www-cgi/jvcr13pz.cgi?E+PZ+3+AOA0001+ERJ3GEY0R00V+7+WW; ComponentLink1Description: http://industrial.panasonic.com/www-cgi/jvcr13pz.cgi?E+PZ+3+AOA0001+ERJ3GEY0R00V+7+WW; Supplier Part Number 1: P0.0GCT-ND
footprint RES 0603 N (Chip, Body 1.6x0.8mm, IPC Medium Density)
pins: 1, 2

## RES SMD 0.02 OHM 1% 7W 2818
designator R?, comment 0.02R
RES SMD 0.02 OHM 1% 7W 2818; Manufacturer: Vishay Dale; Manufacturer Part Number: WSHM2818R0200FEA; Resistance (Ohms): 0.02; Temperature Coefficient: ±75ppm/°C; Supplier 1: Digi-Key; RoHS: RoHS Compliant; Category: Resistors; Stock 1: 2419; Pricing 1: 1=1.35, 10=1.194, 25=1.0972, 50=1.001, 100=0.8663, 250=0.73152, 500=0.616, 1000=0.51205 (USD); Packaging: Cut Tape (CT); Part Status: Active; Tolerance: ±1%; Power (Watts): 7W; Composition: Metal Element; Features: Automotive AEC-Q200, Current Sense, Moisture Resistant, Pulse Withstanding; Operating Temperature: -65°C ~ 170°C; Package / Case: 2818; Supplier Device Package: 2818; Size / Dimension: 0.280" L x 0.181" W (7.10mm x 4.60mm); Height: 0.069" (1.75mm); Number of Terminations: 2; Failure Rate: -; ComponentLink1URL: http://www.vishay.com/docs/30188/wshm2818.pdf; ComponentLink1Description: http://www.vishay.com/docs/30188/wshm2818.pdf; Supplier Part Number 1: 541-2628-1-ND
footprint SENSE RES 2818 N (Chip Resistor, 2-Leads, Body 7,05x4,60mm, IPC Medium Density)
pins: 1, 2

## RES SMD 0.36 OHM 5% 1/10W 0603
designator R?, comment 0.36R
RES SMD 0.36 OHM 5% 1/10W 0603; Manufacturer: Bourns Inc.; Manufacturer Part Number: CRL0603-JW-R360ELF; Resistance (Ohms): 0.36; Power (Watts): 0.1W, 1/10W; Temperature Coefficient: ±200ppm/°C; Supplier 1: Digi-Key; RoHS: RoHS Compliant; Category: Resistors; Stock 1: 0; Pricing 1: 5000=0.02625 (USD); Packaging: Tape & Reel (TR); Part Status: Active; Tolerance: ±5%; Composition: Thick Film; Features: -; Operating Temperature: -55°C ~ 125°C; Package / Case: 0603 (1608 Metric); Supplier Device Package: 0603; Size / Dimension: 0.063" L x 0.031" W (1.60mm x 0.80mm); Height - Seated (Max): 0.022" (0.55mm); Number of Terminations: 2; Failure Rate: -; ComponentLink1URL: http://www.bourns.com/docs/Product-Datasheets/CRL.pdf; ComponentLink1Description: http://www.bourns.com/docs/Product-Datasheets/CRL.pdf; Supplier Part Number 1: CRL0603-JW-R360ELF-ND
footprint RES 0603 N (Chip Resistor, 2-Leads, Body 1,60x0,80mm, IPC Medium Density)
pins: 1, 2

## RES SMD 1K OHM 5% 1/8W 0805
designator R?, comment 1k
RES SMD 1K OHM 5% 1/8W 0805; Manufacturer: Panasonic Electronic Components; Manufacturer Part Number: ERJ-6GEYJ102V; Power (Watts): 0.125W, 1/8W; Temperature Coefficient: ±200ppm/°C; Supplier 1: Digi-Key; RoHS: RoHS Compliant; Category: Resistors; Stock 1: 1035785; Pricing 1: 1=0.1, 10=0.025, 25=0.018, 50=0.0136, 100=0.01, 250=0.00764, 500=0.00612, 1000=0.00451 (USD); Packaging: Cut Tape (CT); Part Status: Active; Resistance (Ohms): 1k; Tolerance: ±5%; Composition: Thick Film; Features: Automotive AEC-Q200; Operating Temperature: -55°C ~ 155°C; Package / Case: 0805 (2012 Metric); Supplier Device Package: 0805; Size / Dimension: 0.079" L x 0.049" W (2.00mm x 1.25mm); Height - Seated (Max): 0.028" (0.70mm); Number of Terminations: 2; Failure Rate: -; ComponentLink1URL: http://industrial.panasonic.com/www-cgi/jvcr13pz.cgi?E+PZ+3+AOA0001+ERJ6GEYJ102V+7+WW; ComponentLink1Description: http://industrial.panasonic.com/www-cgi/jvcr13pz.cgi?E+PZ+3+AOA0001+ERJ6GEYJ102V+7+WW; Supplier Part Number 1: P1.0KACT-ND
footprint RES 0805 M (Chip Resistor, 2-Leads, Body 2,00x1,25mm, IPC Low Density)
pins: 1, 2

## RES SMD 2.2K OHM 5% 1/8W 0402
designator C?, comment 2.2k
RES SMD 2.2K OHM 5% 1/8W 0402; Manufacturer: Vishay Dale; Manufacturer Part Number: CRCW04022K20JNEDHP; Product Training Modules: CRCW-HP Thick Film Chip Resistors; Featured Product: CRCW-HP Series Resistors; EDA / CAD Models: Download from Accelerated Designs; Power (Watts): 0.125W, 1/8W; Temperature Coefficient: ±200ppm/°C; Online Catalog: CRCW-HP e3 Automotive Series; Other Names: 541-2.2KYADKR; Supplier 1: Mouser; Stock 1: 16949; Pricing 1: 1=0.16, 10=0.088, 50=0.088, 100=0.051, 1000=0.035, 10000=0.022 (USD); Standard Package: 1; Category: Resistors; Family: Chip Resistor - Surface Mount; Series: CRCW-HP; Packaging: Digi-Reel®; Resistance (Ohms): 2.2k; Tolerance: ±5%; Composition: Thick Film; Features: Automotive AEC-Q200, Pulse Withstanding; Operating Temperature: -55°C ~ 155°C; Package / Case: 0402 (1005 Metric); Supplier Device Package: 0402 (1005 Metric); Size / Dimension: 0.039" L x 0.020" W (1.00mm x 0.50mm); Height: 0.016" (0.40mm); Number of Terminations: 2; ComponentLink1URL: https://datasheet.ciiva.com/2470/crcwhpe3-2470576.pdf; ComponentLink1Description: https://datasheet.ciiva.com/2470/crcwhpe3-2470576.pdf; ComponentLink2URL: https://datasheet.ciiva.com/2470/crcwhpe3-2470577.pdf; ComponentLink2Description: https://datasheet.ciiva.com/2470/crcwhpe3-2470577.pdf; ComponentLink3URL: https://datasheet.ciiva.com/2470/crcwhpe3-2470578.pdf; ComponentLink3Description: https://datasheet.ciiva.com/2470/crcwhpe3-2470578.pdf; ComponentLink4URL: https://datasheet.ciiva.com/9091/crcwhpe3-9091173.pdf; ComponentLink4Description: https://datasheet.ciiva.com/9091/crcwhpe3-9091173.pdf; ComponentLink5URL: https://datasheet.ciiva.com/48527/crcwhpe3-48527319.pdf; ComponentLink5Description: https://datasheet.ciiva.com/48527/crcwhpe3-48527319.pdf; ComponentLink6URL: https://datasheet.ciiva.com/5549/crcwhpe3-46056-5549293.pdf; ComponentLink6Description: https://datasheet.ciiva.com/5549/crcwhpe3-46056-5549293.pdf; Supplier Part Number 1: 71-CRCW04022K20JNEDH; Value: 2.2k
footprint SMD-0402-RES
pins: 1, 2

## RES SMD 2K OHM 1% 1/10W 0603
designator R?, comment 2k
RES SMD 2K OHM 1% 1/10W 0603; Manufacturer: Panasonic Electronic Components; Manufacturer Part Number: ERJ-3EKF2001V; Power (Watts): 0.1W, 1/10W; Temperature Coefficient: ±100ppm/°C; Supplier 1: Digi-Key; RoHS: RoHS Compliant; Category: Resistors; Stock 1: 975554; Pricing 1: 1=0.1, 50=0.0114, 100=0.0084, 250=0.00644, 500=0.00514, 1000=0.00379 (USD); Packaging: Cut Tape (CT); Part Status: Active; Resistance (Ohms): 2k; Tolerance: ±1%; Composition: Thick Film; Features: Automotive AEC-Q200; Operating Temperature: -55°C ~ 155°C; Package / Case: 0603 (1608 Metric); Supplier Device Package: 0603; Size / Dimension: 0.063" L x 0.031" W (1.60mm x 0.80mm); Height - Seated (Max): 0.022" (0.55mm); Number of Terminations: 2; Failure Rate: -; ComponentLink1URL: http://industrial.panasonic.com/www-cgi/jvcr13pz.cgi?E+PZ+3+AOA0002+ERJ3EKF2001V+7+WW; ComponentLink1Description: http://industrial.panasonic.com/www-cgi/jvcr13pz.cgi?E+PZ+3+AOA0002+ERJ3EKF2001V+7+WW; Supplier Part Number 1: P2.00KHCT-ND
footprint RES 0603 N (Chip Resistor, 2-Leads, Body 1,60x0,80mm, IPC Medium Density)
pins: 1, 2

## RES SMD 3K OHM 1% 1/10W 0603
designator R?, comment 3k
RES SMD 3K OHM 1% 1/10W 0603; Manufacturer: Panasonic Electronic Components; Manufacturer Part Number: ERJ-3EKF3001V; Power (Watts): 0.1W, 1/10W; Temperature Coefficient: ±100ppm/°C; Supplier 1: Digi-Key; RoHS: RoHS Compliant; Category: Resistors; Stock 1: 186953; Pricing 1: 1=0.1, 50=0.0114, 100=0.0084, 250=0.00644, 500=0.00514, 1000=0.00379 (USD); Packaging: Cut Tape (CT); Part Status: Active; Resistance (Ohms): 3k; Tolerance: ±1%; Composition: Thick Film; Features: Automotive AEC-Q200; Operating Temperature: -55°C ~ 155°C; Package / Case: 0603 (1608 Metric); Supplier Device Package: 0603; Size / Dimension: 0.063" L x 0.031" W (1.60mm x 0.80mm); Height - Seated (Max): 0.022" (0.55mm); Number of Terminations: 2; Failure Rate: -; ComponentLink1URL: http://industrial.panasonic.com/www-cgi/jvcr13pz.cgi?E+PZ+3+AOA0002+ERJ3EKF3001V+7+WW; ComponentLink1Description: http://industrial.panasonic.com/www-cgi/jvcr13pz.cgi?E+PZ+3+AOA0002+ERJ3EKF3001V+7+WW; Supplier Part Number 1: P3.00KHCT-ND
footprint RES 0603 N (Chip Resistor, 2-Leads, Body 1,60x0,80mm, IPC Medium Density)
pins: 1, 2

## RES SMD 4.7K OHM 1% 1/10W 0603
designator R?, comment 4k7
RES SMD 4.7K OHM 1% 1/10W 0603; Manufacturer: Panasonic Electronic Components; Manufacturer Part Number: ERJ-3EKF4701V; Power (Watts): 0.1W, 1/10W; Temperature Coefficient: ±100ppm/°C; Supplier 1: Digi-Key; RoHS: RoHS Compliant; Category: Resistors; Stock 1: 1626868; Pricing 1: 1=0.1, 50=0.0114, 100=0.0084, 250=0.00644, 500=0.00514, 1000=0.00379 (USD); Packaging: Cut Tape (CT); Part Status: Active; Resistance (Ohms): 4.7k; Tolerance: ±1%; Composition: Thick Film; Features: Automotive AEC-Q200; Operating Temperature: -55°C ~ 155°C; Package / Case: 0603 (1608 Metric); Supplier Device Package: 0603; Size / Dimension: 0.063" L x 0.031" W (1.60mm x 0.80mm); Height: 0.022" (0.55mm); Number of Terminations: 2; Failure Rate: -; ComponentLink1URL: http://industrial.panasonic.com/www-cgi/jvcr13pz.cgi?E+PZ+3+AOA0002+ERJ3EKF4701V+7+WW; ComponentLink1Description: http://industrial.panasonic.com/www-cgi/jvcr13pz.cgi?E+PZ+3+AOA0002+ERJ3EKF4701V+7+WW; Supplier Part Number 1: P4.70KHCT-ND
footprint RES 0603 N (Chip, Body 1.6x0.8mm, IPC Medium Density)
pins: 1, 2

## RES SMD 4.53K OHM 1% 1/10W 0603
designator R?, comment 4k53
RES SMD 4.53K OHM 1% 1/10W 0603; Manufacturer: Panasonic Electronic Components; Manufacturer Part Number: ERJ-3EKF4531V; Power (Watts): 0.1W, 1/10W; Temperature Coefficient: ±100ppm/°C; Supplier 1: Digi-Key; RoHS: RoHS Compliant; Category: Resistors; Stock 1: 96401; Pricing 1: 1=0.1, 50=0.0114, 100=0.0084, 250=0.00644, 500=0.00514, 1000=0.00379 (USD); Packaging: Cut Tape (CT); Part Status: Active; Resistance (Ohms): 4.53k; Tolerance: ±1%; Composition: Thick Film; Features: Automotive AEC-Q200; Operating Temperature: -55°C ~ 155°C; Package / Case: 0603 (1608 Metric); Supplier Device Package: 0603; Size / Dimension: 0.063" L x 0.031" W (1.60mm x 0.80mm); Height - Seated (Max): 0.022" (0.55mm); Number of Terminations: 2; Failure Rate: -; ComponentLink1URL: http://industrial.panasonic.com/www-cgi/jvcr13pz.cgi?E+PZ+3+AOA0002+ERJ3EKF4531V+7+WW; ComponentLink1Description: http://industrial.panasonic.com/www-cgi/jvcr13pz.cgi?E+PZ+3+AOA0002+ERJ3EKF4531V+7+WW; Supplier Part Number 1: P4.53KHCT-ND
footprint RES 0603 N (Chip Resistor, 2-Leads, Body 1,60x0,80mm, IPC Medium Density)
pins: 1, 2

## RES SMD 8.2K OHM 1% 1/10W 0603
designator R?, comment 8k2
RES SMD 8.2K OHM 1% 1/10W 0603; Manufacturer: Panasonic Electronic Components; Manufacturer Part Number: ERJ-3EKF8201V; Power (Watts): 0.1W, 1/10W; Temperature Coefficient: ±100ppm/°C; Supplier 1: Digi-Key; RoHS: RoHS Compliant; Category: Resistors; Stock 1: 200126; Pricing 1: 1=0.1, 50=0.0114, 100=0.0084, 250=0.00644, 500=0.00514, 1000=0.00379 (USD); Packaging: Cut Tape (CT); Part Status: Active; Resistance (Ohms): 8.2k; Tolerance: ±1%; Composition: Thick Film; Features: Automotive AEC-Q200; Operating Temperature: -55°C ~ 155°C; Package / Case: 0603 (1608 Metric); Supplier Device Package: 0603; Size / Dimension: 0.063" L x 0.031" W (1.60mm x 0.80mm); Height - Seated (Max): 0.022" (0.55mm); Number of Terminations: 2; Failure Rate: -; ComponentLink1URL: http://industrial.panasonic.com/www-cgi/jvcr13pz.cgi?E+PZ+3+AOA0002+ERJ3EKF8201V+7+WW; ComponentLink1Description: http://industrial.panasonic.com/www-cgi/jvcr13pz.cgi?E+PZ+3+AOA0002+ERJ3EKF8201V+7+WW; Supplier Part Number 1: P8.20KHCT-ND
footprint RES 0603 N (Chip Resistor, 2-Leads, Body 1,60x0,80mm, IPC Medium Density)
pins: 1, 2

## RES SMD 10K OHM 1% 1/10W 0603
designator R?, comment 10k
RES SMD 10K OHM 1% 1/10W 0603; Manufacturer: Panasonic Electronic Components; Manufacturer Part Number: ERJ-3EKF1002V; Power (Watts): 0.1W, 1/10W; Temperature Coefficient: ±100ppm/°C; Supplier 1: Digi-Key; RoHS: RoHS Compliant; Category: Resistors; Stock 1: 0; Pricing 1: 1=0.1, 50=0.0114, 100=0.0084, 250=0.00644, 500=0.00514, 1000=0.00379 (USD); Packaging: Cut Tape (CT); Part Status: Active; Resistance (Ohms): 10k; Tolerance: ±1%; Composition: Thick Film; Features: Automotive AEC-Q200; Operating Temperature: -55°C ~ 155°C; Package / Case: 0603 (1608 Metric); Supplier Device Package: 0603; Size / Dimension: 0.063" L x 0.031" W (1.60mm x 0.80mm); Height - Seated (Max): 0.022" (0.55mm); Number of Terminations: 2; Failure Rate: -; ComponentLink1URL: http://industrial.panasonic.com/www-cgi/jvcr13pz.cgi?E+PZ+3+AOA0002+ERJ3EKF1002V+7+WW; ComponentLink1Description: http://industrial.panasonic.com/www-cgi/jvcr13pz.cgi?E+PZ+3+AOA0002+ERJ3EKF1002V+7+WW; Supplier Part Number 1: P10.0KHCT-ND
footprint RES 0603 N (Chip Resistor, 2-Leads, Body 1,60x0,80mm, IPC Medium Density)
pins: 1, 2

## RES SMD 10K OHM 1% 1/10W 0603_1
designator R?, comment 10k
RES SMD 10K OHM 1% 1/10W 0603; Manufacturer: Panasonic Electronic Components; Manufacturer Part Number: ERJ-3EKF1002V; Power (Watts): 0.1W, 1/10W; Temperature Coefficient: ±100ppm/°C; Supplier 1: Digi-Key; RoHS: RoHS Compliant; Category: Resistors; Stock 1: 502; Pricing 1: 1=0.1, 50=0.0114, 100=0.0084, 250=0.00644, 500=0.00514, 1000=0.00379 (USD); Packaging: Cut Tape (CT); Part Status: Active; Resistance (Ohms): 10k; Tolerance: ±1%; Composition: Thick Film; Features: Automotive AEC-Q200; Operating Temperature: -55°C ~ 155°C; Package / Case: 0603 (1608 Metric); Supplier Device Package: 0603; Size / Dimension: 0.063" L x 0.031" W (1.60mm x 0.80mm); Height: 0.022" (0.55mm); Number of Terminations: 2; Failure Rate: -; ComponentLink1URL: http://industrial.panasonic.com/www-cgi/jvcr13pz.cgi?E+PZ+3+AOA0002+ERJ3EKF1002V+7+WW; ComponentLink1Description: http://industrial.panasonic.com/www-cgi/jvcr13pz.cgi?E+PZ+3+AOA0002+ERJ3EKF1002V+7+WW; Supplier Part Number 1: P10.0KHCT-ND
footprint RES 0603 N (Chip, Body 1.6x0.8mm, IPC Medium Density)
pins: 1, 2